# Altium schematic symbol library WR-TBL_Rising Cage Clamp.SchLib: 435 symbols (part 2 of 7)
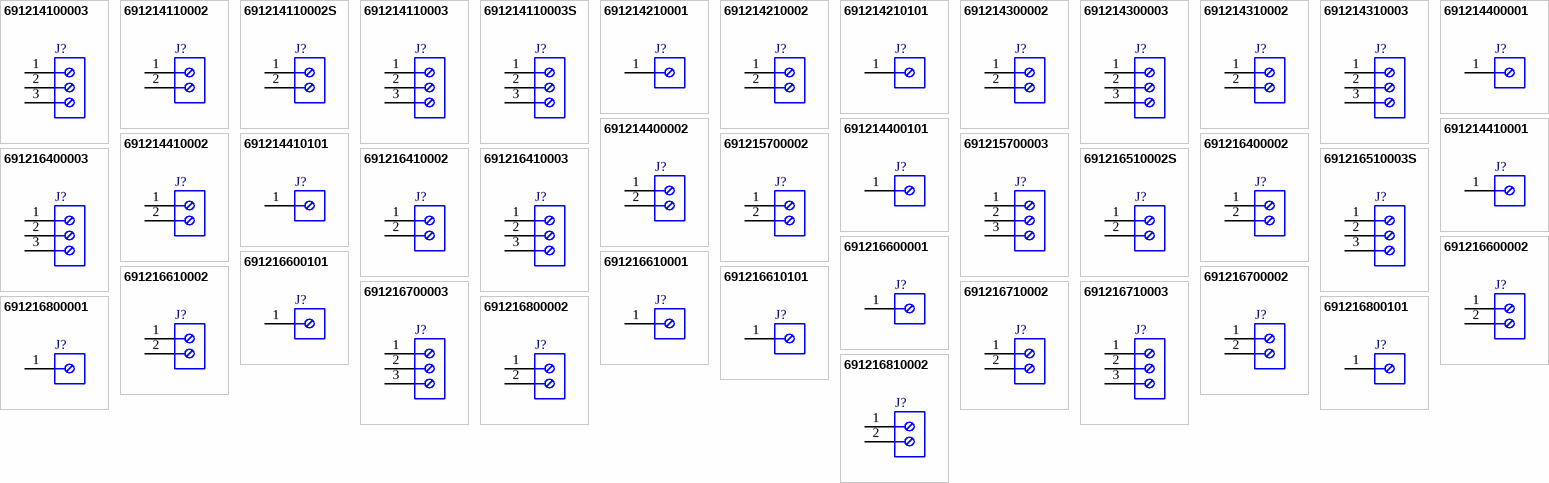
[diagram p11: symbols 691214100003 to 691216810002]

## 691216610002
designator J?
WR-TBL Serie 2166 Horizontal Entry, Rising Cage Clamp, pitch 10.16mm, 2p; Part Number: 691216610002; Compliance: Lead free / RoHS; Modularity: Yes; PCB/Cable/Panel: PCB; Pin Number: 2; Rated Current [UL]: 14A; Working Voltage [UL]: 300VAC; ComponentLink1Description: Manufacturer; ComponentLink1URL: http://www.we-online.de; ComponentLink2URL: https://katalog.we-online.de/em/datasheet/691216610002.pdf; ComponentLink2Description: Datasheet; Mounting Technology: THT; Packaging: Box; Operating Temperature: -30 to +120degC; Pitch: 10.16mm; Published Date: October 2019; Type: Horizontal; Publisher: Wurth Elektronik; Application: Rising Cage Clamp
footprint 691216610002
pins: 1, 2

## 691216610101
designator J?
WR-TBL Serie 2166 Horizontal Entry, Rising Cage Clamp, pitch 10.16mm, 1p; Part Number: 691216610101; Compliance: Lead free / RoHS; Modularity: Yes; PCB/Cable/Panel: PCB; Pin Number: 1; Rated Current [UL]: 14A; Working Voltage [UL]: 300VAC; ComponentLink1Description: Manufacturer; ComponentLink1URL: http://www.we-online.de; ComponentLink2URL: https://katalog.we-online.de/em/datasheet/691216610101.pdf; ComponentLink2Description: Datasheet; Mounting Technology: THT; Packaging: Box; Operating Temperature: -30 to +120degC; Pitch: 10.16mm; Published Date: October 2019; Type: Horizontal; Publisher: Wurth Elektronik; Application: Rising Cage Clamp
footprint 691216610101
pins: 1

## 691216700002
designator J?
WR-TBL Serie 2167 Vertical Entry Modular, Rising Cage Clamp, pitch 5mm, 2p; Part Number: 691216700002; Compliance: Lead free / RoHS; Modularity: Yes; PCB/Cable/Panel: PCB; Pin Number: 2; Rated Current [UL]: 14A; Working Voltage [UL]: 300VAC; ComponentLink1Description: Manufacturer; ComponentLink1URL: http://www.we-online.de; ComponentLink2URL: https://katalog.we-online.de/em/datasheet/691216700002.pdf; ComponentLink2Description: Datasheet; Mounting Technology: THT; Packaging: Box; Operating Temperature: -30 to +120degC; Pitch: 5mm; Published Date: October 2019; Type: Vertical; Publisher: Wurth Elektronik; Application: Rising Cage Clamp
footprint 691216700002
pins: 1, 2

## 691216700003
designator J?
WR-TBL Serie 2167 Vertical Entry Modular, Rising Cage Clamp, pitch 5mm, 3p; Part Number: 691216700003; Compliance: Lead free / RoHS; Modularity: Yes; PCB/Cable/Panel: PCB; Pin Number: 3; Rated Current [UL]: 14A; Working Voltage [UL]: 300VAC; ComponentLink1Description: Manufacturer; ComponentLink1URL: http://www.we-online.de; ComponentLink2URL: https://katalog.we-online.de/em/datasheet/691216700003.pdf; ComponentLink2Description: Datasheet; Mounting Technology: THT; Packaging: Box; Operating Temperature: -30 to +120degC; Pitch: 5mm; Published Date: October 2019; Type: Vertical; Publisher: Wurth Elektronik; Application: Rising Cage Clamp
footprint 691216700003
pins: 1, 2, 3

## 691216710002
designator J?
WR-TBL Serie 2167 Horizontal Entry Modular, Rising Cage Clamp, pitch 5mm, 2p; Part Number: 691216710002; Compliance: Lead free / RoHS;​ ROHS & Reach; Modularity: Yes; PCB/Cable/Panel: PCB; Pin Number: 2; Rated Current [UL]: 14A; Working Voltage [UL]: 300VAC; ComponentLink1Description: Manufacturer; ComponentLink1URL: http://www.we-online.de; ComponentLink2URL: https://katalog.we-online.de/em/datasheet/691216710002.pdf; ComponentLink2Description: Datasheet; Mounting Technology: THT; Packaging: Box; Operating Temperature: -30 to +120degC; Pitch: 5mm; Published Date: October 2019; Type: Horizontal; Publisher: Wurth Elektronik; Application: Rising Cage Clamp
footprint 691216710002
pins: 1, 2

## 691216710003
designator J?
WR-TBL Serie 2167 Horizontal Entry Modular, Rising Cage Clamp, pitch 5mm, 3p; Part Number: 691216710003; Compliance: Lead free / RoHS;​ ROHS & Reach; Modularity: Yes; PCB/Cable/Panel: PCB; Pin Number: 3; Rated Current [UL]: 14A; Working Voltage [UL]: 300VAC; ComponentLink1Description: Manufacturer; ComponentLink1URL: http://www.we-online.de; ComponentLink2URL: https://katalog.we-online.de/em/datasheet/691216710003.pdf; ComponentLink2Description: Datasheet; Mounting Technology: THT; Packaging: Box; Operating Temperature: -30 to +120degC; Pitch: 5mm; Published Date: October 2019; Type: Horizontal; Publisher: Wurth Elektronik; Application: Rising Cage Clamp
footprint 691216710003
pins: 1, 2, 3

## 691216800001
designator J?
WR-TBL Serie 2168 Vertical Entry, Rising Cage Clamp, pitch 10mm, 1p; Part Number: 691216800001; Compliance: Lead free / RoHS; Modularity: Yes; PCB/Cable/Panel: PCB; Pin Number: 1; Rated Current [UL]: 14A; Working Voltage [UL]: 300VAC; ComponentLink1Description: Manufacturer; ComponentLink1URL: http://www.we-online.de; ComponentLink2URL: https://katalog.we-online.de/em/datasheet/691216800001.pdf; ComponentLink2Description: Datasheet; Mounting Technology: THT; Packaging: Box; Operating Temperature: -30 to +120degC; Pitch: 10mm; Published Date: October 2019; Type: Vertical; Publisher: Wurth Elektronik; Application: Rising Cage Clamp
footprint 691216800001
pins: 1

## 691216800002
designator J?
WR-TBL Serie 2168 Vertical Entry, Rising Cage Clamp, pitch 10mm, 2p; Part Number: 691216800002; Compliance: Lead free / RoHS; Modularity: Yes; PCB/Cable/Panel: PCB; Pin Number: 2; Rated Current [UL]: 14A; Working Voltage [UL]: 300VAC; ComponentLink1Description: Manufacturer; ComponentLink1URL: http://www.we-online.de; ComponentLink2URL: https://katalog.we-online.de/em/datasheet/691216800002.pdf; ComponentLink2Description: Datasheet; Mounting Technology: THT; Packaging: Box; Operating Temperature: -30 to +120degC; Pitch: 10mm; Published Date: October 2019; Type: Vertical; Publisher: Wurth Elektronik; Application: Rising Cage Clamp
footprint 691216800002
pins: 1, 2

## 691216800101
designator J?
WR-TBL Serie 2168 Vertical Entry, Rising Cage Clamp, pitch 10mm, 1p; Part Number: 691216800101; Compliance: Lead free / RoHS; Modularity: Yes; PCB/Cable/Panel: PCB; Pin Number: 1; Rated Current [UL]: 14A; Working Voltage [UL]: 300VAC; ComponentLink1Description: Manufacturer; ComponentLink1URL: http://www.we-online.de; ComponentLink2URL: https://katalog.we-online.de/em/datasheet/691216800101.pdf; ComponentLink2Description: Datasheet; Mounting Technology: THT; Packaging: Box; Operating Temperature: -30 to +120degC; Pitch: 10mm; Published Date: October 2019; Type: Vertical; Publisher: Wurth Elektronik; Application: Rising Cage Clamp
footprint 691216800101
pins: 1

## 691216810002
designator J?
WR-TBL Serie 2168 Horizontal Entry Modular, Rising Cage Clamp, pitch 10mm, 2p; Part Number: 691216810002; Compliance: ROHS & Reach; Modularity: Yes; PCB/Cable/Panel: PCB; Pin Number: 2; Rated Current [UL]: 14A; Working Voltage [UL]: 300VAC; ComponentLink1Description: Manufacturer; ComponentLink1URL: http://www.we-online.de; ComponentLink2URL: https://katalog.we-online.de/em/datasheet/691216810002.pdf; ComponentLink2Description: Datasheet; Mounting Technology: THT; Packaging: Box; Operating Temperature: -30 to +120degC; Pitch: 10mm; Published Date: October 2019; Type: Horizontal; Publisher: Wurth Elektronik; Application: Rising Cage Clamp
footprint 691216810002
pins: 1, 2

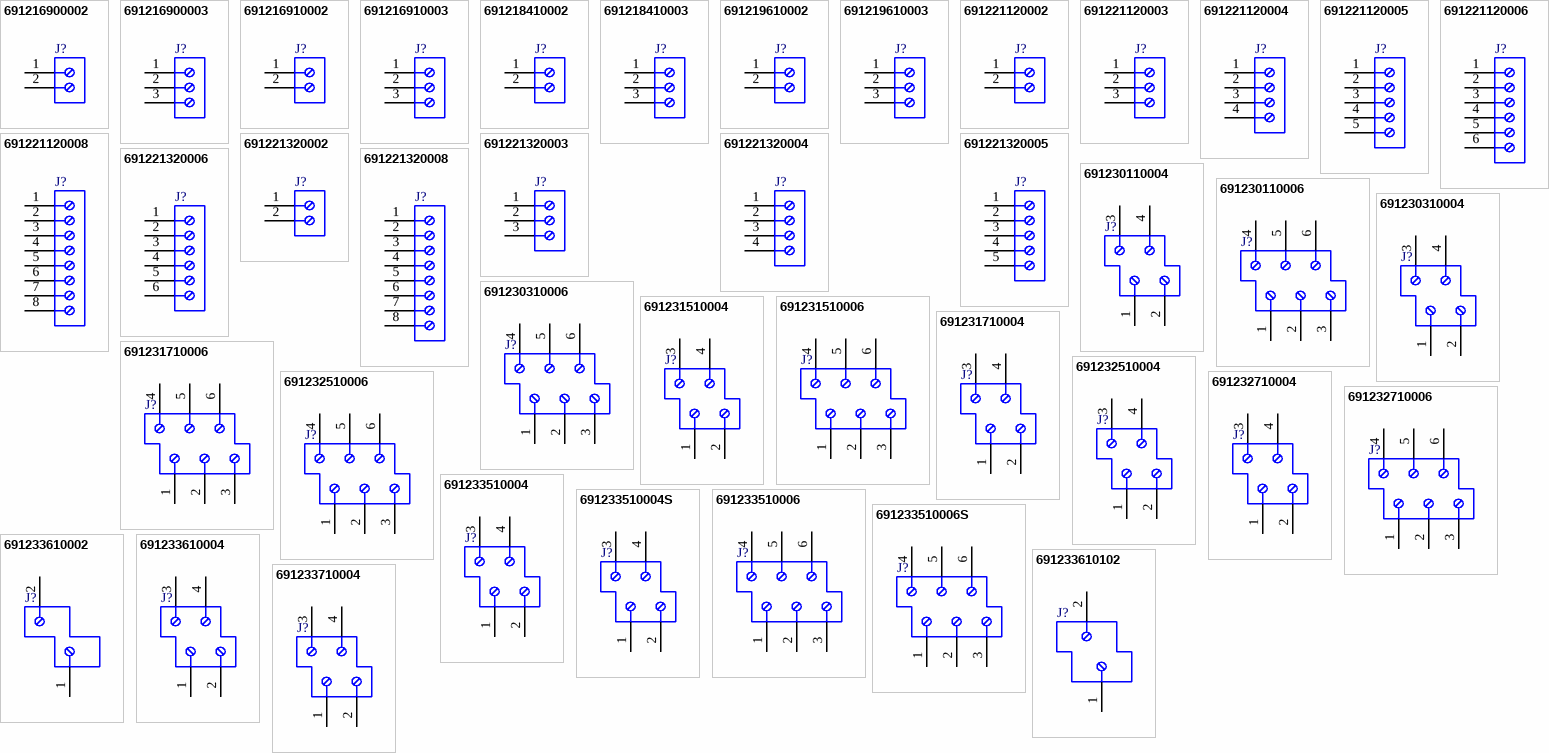
[diagram p2: symbols 691216900002 to 691233710004]

## 691216900002
designator J?
WR-TBL Serie 2169 Vertical Entry, Rising Cage Clamp, pitch 7.5mm, 2p; Part Number: 691216900002; Compliance: Lead free / RoHS; Modularity: Yes; PCB/Cable/Panel: PCB; Pin Number: 2; Rated Current [UL]: 14A; Working Voltage [UL]: 300VAC; ComponentLink1Description: Manufacturer; ComponentLink1URL: http://www.we-online.de; ComponentLink2URL: https://katalog.we-online.de/em/datasheet/691216900002.pdf; ComponentLink2Description: Datasheet; Mounting Technology: THT; Packaging: Box; Operating Temperature: -30 to +120degC; Pitch: 7.5mm; Published Date: October 2019; Type: Vertical; Publisher: Wurth Elektronik; Application: Rising Cage Clamp
footprint 691216900002
pins: 1, 2

## 691216900003
designator J?
WR-TBL Serie 2169 Vertical Entry, Rising Cage Clamp, pitch 7.5mm, 3p; Part Number: 691216900003; Compliance: Lead free / RoHS; Modularity: Yes; PCB/Cable/Panel: PCB; Pin Number: 3; Rated Current [UL]: 14A; Working Voltage [UL]: 300VAC; ComponentLink1Description: Manufacturer; ComponentLink1URL: http://www.we-online.de; ComponentLink2URL: https://katalog.we-online.de/em/datasheet/691216900003.pdf; ComponentLink2Description: Datasheet; Mounting Technology: THT; Packaging: Box; Operating Temperature: -30 to +120degC; Pitch: 7.5mm; Published Date: October 2019; Type: Vertical; Publisher: Wurth Elektronik; Application: Rising Cage Clamp
footprint 691216900003
pins: 1, 2, 3

## 691216910002
designator J?
WR-TBL Serie 2169 Horizontal Entry Modular, Rising Cage Clamp, pitch 7.5mm, 2p; Part Number: 691216910002; Compliance: ROHS & Reach; Modularity: Yes; PCB/Cable/Panel: PCB; Pin Number: 2; Rated Current [UL]: 14A; Working Voltage [UL]: 300VAC; ComponentLink1Description: Manufacturer; ComponentLink1URL: http://www.we-online.de; ComponentLink2URL: https://katalog.we-online.de/em/datasheet/691216910002.pdf; ComponentLink2Description: Datasheet; Mounting Technology: THT; Packaging: Box; Operating Temperature: -30 to +120degC; Pitch: 7.5mm; Published Date: October 2019; Type: Horizontal; Publisher: Wurth Elektronik; Application: Rising Cage Clamp
footprint 691216910002
pins: 1, 2

## 691216910003
designator J?
WR-TBL Serie 2169 Horizontal Entry Modular, Rising Cage Clamp, pitch 7.5mm, 3p; Part Number: 691216910003; Compliance: ROHS & Reach; Modularity: Yes; PCB/Cable/Panel: PCB; Pin Number: 3; Rated Current [UL]: 14A; Working Voltage [UL]: 300VAC; ComponentLink1Description: Manufacturer; ComponentLink1URL: http://www.we-online.de; ComponentLink2URL: https://katalog.we-online.de/em/datasheet/691216910003.pdf; ComponentLink2Description: Datasheet; Mounting Technology: THT; Packaging: Box; Operating Temperature: -30 to +120degC; Pitch: 7.5mm; Published Date: October 2019; Type: Horizontal; Publisher: Wurth Elektronik; Application: Rising Cage Clamp
footprint 691216910003
pins: 1, 2, 3

## 691218410002
designator J?
WR-TBL Serie 2184 Horizontal Entry Modular, Rising Cage Clamp, pitch 7.62mm, 2p; Part Number: 691218410002; Compliance: Lead free / RoHS; Modularity: Yes; PCB/Cable/Panel: PCB; Pin Number: 2; Rated Current [UL]: 30A; Working Voltage [UL]: 300VAC; ComponentLink1Description: Manufacturer; ComponentLink1URL: http://www.we-online.de; ComponentLink2URL: https://katalog.we-online.de/em/datasheet/691218410002.pdf; ComponentLink2Description: Datasheet; Mounting Technology: THT; Packaging: Box; Operating Temperature: -40 to +105degC; Pitch: 7.62mm; Published Date: October 2019; Type: Horizontal; Publisher: Wurth Elektronik; Application: Rising Cage Clamp
footprint 691218410002
pins: 1, 2

## 691218410003
designator J?
WR-TBL Serie 2184 Horizontal Entry Modular, Rising Cage Clamp, pitch 7.62mm, 3p; Part Number: 691218410003; Compliance: Lead free / RoHS; Modularity: Yes; PCB/Cable/Panel: PCB; Pin Number: 3; Rated Current [UL]: 30A; Working Voltage [UL]: 300VAC; ComponentLink1Description: Manufacturer; ComponentLink1URL: http://www.we-online.de; ComponentLink2URL: https://katalog.we-online.de/em/datasheet/691218410003.pdf; ComponentLink2Description: Datasheet; Mounting Technology: THT; Packaging: Box; Operating Temperature: -40 to +105degC; Pitch: 7.62mm; Published Date: October 2019; Type: Horizontal; Publisher: Wurth Elektronik; Application: Rising Cage Clamp
footprint 691218410003
pins: 1, 2, 3

## 691219610002
designator J?
WR-TBL Serie 2196 Horizontal Entry Modular, Rising Cage Clamp, pitch 10.16mm, 2p; Part Number: 691219610002; Compliance: Lead free / RoHS; Modularity: Yes; PCB/Cable/Panel: PCB; Pin Number: 2; Rated Current [UL]: 57A; Working Voltage [UL]: 300VAC; ComponentLink1Description: Manufacturer; ComponentLink1URL: http://www.we-online.de; ComponentLink2URL: https://katalog.we-online.de/em/datasheet/691219610002.pdf; ComponentLink2Description: Datasheet; Mounting Technology: THT; Packaging: Box; Operating Temperature: -40 to +105degC; Pitch: 10.16mm; Published Date: October 2019; Type: Horizontal; Publisher: Wurth Elektronik; Application: Rising Cage Clamp
footprint 691219610002
pins: 1, 2

## 691219610003
designator J?
WR-TBL Serie 2196 Horizontal Entry Modular, Rising Cage Clamp, pitch 10.16mm, 3p; Part Number: 691219610003; Compliance: Lead free / RoHS; Modularity: Yes; PCB/Cable/Panel: PCB; Pin Number: 3; Rated Current [UL]: 57A; Working Voltage [UL]: 300VAC; ComponentLink1Description: Manufacturer; ComponentLink1URL: http://www.we-online.de; ComponentLink2URL: https://katalog.we-online.de/em/datasheet/691219610003.pdf; ComponentLink2Description: Datasheet; Mounting Technology: THT; Packaging: Box; Operating Temperature: -40 to +105degC; Pitch: 10.16mm; Published Date: October 2019; Type: Horizontal; Publisher: Wurth Elektronik; Application: Rising Cage Clamp
footprint 691219610003
pins: 1, 2, 3

## 691221120002
designator J?
WR-TBL Serie 2211 55deg Entry Modular, Rising Cage Clamp, pitch 3.5mm, 2p; Part Number: 691221120002; Compliance: Lead free / RoHS; Modularity: Yes; PCB/Cable/Panel: PCB; Pin Number: 2; Rated Current [UL]: 10A; Working Voltage [UL]: 300VAC; ComponentLink1Description: Manufacturer; ComponentLink1URL: http://www.we-online.de; ComponentLink2URL: https://katalog.we-online.de/em/datasheet/691221120002.pdf; ComponentLink2Description: Datasheet; Mounting Technology: THT; Packaging: Box; Operating Temperature: -40 to +105degC; Pitch: 3.5mm; Published Date: October 2019; Type: 55deg; Publisher: Wurth Elektronik; Application: Rising Cage Clamp
footprint 691221120002
pins: 1, 2

## 691221120003
designator J?
WR-TBL Serie 2211 55deg Entry Modular, Rising Cage Clamp, pitch 3.5mm, 3p; Part Number: 691221120003; Compliance: Lead free / RoHS; Modularity: Yes; PCB/Cable/Panel: PCB; Pin Number: 3; Rated Current [UL]: 10A; Working Voltage [UL]: 300VAC; ComponentLink1Description: Manufacturer; ComponentLink1URL: http://www.we-online.de; ComponentLink2URL: https://katalog.we-online.de/em/datasheet/691221120003.pdf; ComponentLink2Description: Datasheet; Mounting Technology: THT; Packaging: Box; Operating Temperature: -40 to +105degC; Pitch: 3.5mm; Published Date: October 2019; Type: 55deg; Publisher: Wurth Elektronik; Application: Rising Cage Clamp
footprint 691221120003
pins: 1, 2, 3

## 691221120004
designator J?
WR-TBL Serie 2211 55deg Entry Modular, Rising Cage Clamp, pitch 3.5mm, 4p; Part Number: 691221120004; Compliance: Lead free / RoHS; Modularity: Yes; PCB/Cable/Panel: PCB; Pin Number: 4; Rated Current [UL]: 10A; Working Voltage [UL]: 300VAC; ComponentLink1Description: Manufacturer; ComponentLink1URL: http://www.we-online.de; ComponentLink2URL: https://katalog.we-online.de/em/datasheet/691221120004.pdf; ComponentLink2Description: Datasheet; Mounting Technology: THT; Packaging: Box; Operating Temperature: -40 to +105degC; Pitch: 3.5mm; Published Date: October 2019; Type: 55deg; Publisher: Wurth Elektronik; Application: Rising Cage Clamp
footprint 691221120004
pins: 1, 2, 3, 4

## 691221120005
designator J?
WR-TBL Serie 2211 55deg Entry Modular, Rising Cage Clamp, pitch 3.5mm, 5p; Part Number: 691221120005; Compliance: Lead free / RoHS; Modularity: Yes; PCB/Cable/Panel: PCB; Pin Number: 5; Rated Current [UL]: 10A; Working Voltage [UL]: 300VAC; ComponentLink1Description: Manufacturer; ComponentLink1URL: http://www.we-online.de; ComponentLink2URL: https://katalog.we-online.de/em/datasheet/691221120005.pdf; ComponentLink2Description: Datasheet; Mounting Technology: THT; Packaging: Box; Operating Temperature: -40 to +105degC; Pitch: 3.5mm; Published Date: October 2019; Type: 55deg; Publisher: Wurth Elektronik; Application: Rising Cage Clamp
footprint 691221120005
pins: 1, 2, 3, 4, 5

## 691221120006
designator J?
WR-TBL Serie 2211 55deg Entry Modular, Rising Cage Clamp, pitch 3.5mm, 6p; Part Number: 691221120006; Compliance: Lead free / RoHS; Modularity: Yes; PCB/Cable/Panel: PCB; Pin Number: 6; Rated Current [UL]: 10A; Working Voltage [UL]: 300VAC; ComponentLink1Description: Manufacturer; ComponentLink1URL: http://www.we-online.de; ComponentLink2URL: https://katalog.we-online.de/em/datasheet/691221120006.pdf; ComponentLink2Description: Datasheet; Mounting Technology: THT; Packaging: Box; Operating Temperature: -40 to +105degC; Pitch: 3.5mm; Published Date: October 2019; Type: 55deg; Publisher: Wurth Elektronik; Application: Rising Cage Clamp
footprint 691221120006
pins: 1, 2, 3, 4, 5, 6

## 691221120008
designator J?
WR-TBL Serie 2211 55deg Entry Modular, Rising Cage Clamp, pitch 3.5mm, 8p; Part Number: 691221120008; Compliance: Lead free / RoHS; Modularity: Yes; PCB/Cable/Panel: PCB; Pin Number: 8; Rated Current [UL]: 10A; Working Voltage [UL]: 300VAC; ComponentLink1Description: Manufacturer; ComponentLink1URL: http://www.we-online.de; ComponentLink2URL: https://katalog.we-online.de/em/datasheet/691221120008.pdf; ComponentLink2Description: Datasheet; Mounting Technology: THT; Packaging: Box; Operating Temperature: -40 to +105degC; Pitch: 3.5mm; Published Date: October 2019; Type: 55deg; Publisher: Wurth Elektronik; Application: Rising Cage Clamp
footprint 691221120008
pins: 1, 2, 3, 4, 5, 6, 7, 8

## 691221320002
designator J?
WR-TBL Serie 2213 55deg Entry Modular, Rising Cage Clamp, pitch 3.81mm, 2p; Part Number: 691221320002; Compliance: Lead free / RoHS; Modularity: Yes; PCB/Cable/Panel: PCB; Pin Number: 2; Rated Current [UL]: 10A; Working Voltage [UL]: 300VAC; ComponentLink1Description: Manufacturer; ComponentLink1URL: http://www.we-online.de; ComponentLink2URL: https://katalog.we-online.de/em/datasheet/691221320002.pdf; ComponentLink2Description: Datasheet; Mounting Technology: THT; Packaging: Box; Operating Temperature: -40 to +105degC; Pitch: 3.81mm; Published Date: October 2019; Type: 55deg; Publisher: Wurth Elektronik; Application: Rising Cage Clamp
footprint 691221320002
pins: 1, 2

## 691221320003
designator J?
WR-TBL Serie 2213 55deg Entry Modular, Rising Cage Clamp, pitch 3.81mm, 3p; Part Number: 691221320003; Compliance: Lead free / RoHS; Modularity: Yes; PCB/Cable/Panel: PCB; Pin Number: 3; Rated Current [UL]: 10A; Working Voltage [UL]: 300VAC; ComponentLink1Description: Manufacturer; ComponentLink1URL: http://www.we-online.de; ComponentLink2URL: https://katalog.we-online.de/em/datasheet/691221320003.pdf; ComponentLink2Description: Datasheet; Mounting Technology: THT; Packaging: Box; Operating Temperature: -40 to +105degC; Pitch: 3.81mm; Published Date: October 2019; Type: 55deg; Publisher: Wurth Elektronik; Application: Rising Cage Clamp
footprint 691221320003
pins: 1, 2, 3

## 691221320004
designator J?
WR-TBL Serie 2213 55deg Entry Modular, Rising Cage Clamp, pitch 3.81mm, 4p; Part Number: 691221320004; Compliance: Lead free / RoHS; Modularity: Yes; PCB/Cable/Panel: PCB; Pin Number: 4; Rated Current [UL]: 10A; Working Voltage [UL]: 300VAC; ComponentLink1Description: Manufacturer; ComponentLink1URL: http://www.we-online.de; ComponentLink2URL: https://katalog.we-online.de/em/datasheet/691221320004.pdf; ComponentLink2Description: Datasheet; Mounting Technology: THT; Packaging: Box; Operating Temperature: -40 to +105degC; Pitch: 3.81mm; Published Date: October 2019; Type: 55deg; Publisher: Wurth Elektronik; Application: Rising Cage Clamp
footprint 691221320004
pins: 1, 2, 3, 4

## 691221320005
designator J?
WR-TBL Serie 2213 55deg Entry Modular, Rising Cage Clamp, pitch 3.81mm, 5p; Part Number: 691221320005; Compliance: Lead free / RoHS; Modularity: Yes; PCB/Cable/Panel: PCB; Pin Number: 5; Rated Current [UL]: 10A; Working Voltage [UL]: 300VAC; ComponentLink1Description: Manufacturer; ComponentLink1URL: http://www.we-online.de; ComponentLink2URL: https://katalog.we-online.de/em/datasheet/691221320005.pdf; ComponentLink2Description: Datasheet; Mounting Technology: THT; Packaging: Box; Operating Temperature: -40 to +105degC; Pitch: 3.81mm; Published Date: October 2019; Type: 55deg; Publisher: Wurth Elektronik; Application: Rising Cage Clamp
footprint 691221320005
pins: 1, 2, 3, 4, 5

## 691221320006
designator J?
WR-TBL Serie 2213 55deg Entry Modular, Rising Cage Clamp, pitch 3.81mm, 6p; Part Number: 691221320006; Compliance: Lead free / RoHS; Modularity: Yes; PCB/Cable/Panel: PCB; Pin Number: 6; Rated Current [UL]: 10A; Working Voltage [UL]: 300VAC; ComponentLink1Description: Manufacturer; ComponentLink1URL: http://www.we-online.de; ComponentLink2URL: https://katalog.we-online.de/em/datasheet/691221320006.pdf; ComponentLink2Description: Datasheet; Mounting Technology: THT; Packaging: Box; Operating Temperature: -40 to +105degC; Pitch: 3.81mm; Published Date: October 2019; Type: 55deg; Publisher: Wurth Elektronik; Application: Rising Cage Clamp
footprint 691221320006
pins: 1, 2, 3, 4, 5, 6

## 691221320008
designator J?
WR-TBL Serie 2213 55deg Entry Modular, Rising Cage Clamp, pitch 3.81mm, 8p; Part Number: 691221320008; Compliance: Lead free / RoHS; Modularity: Yes; PCB/Cable/Panel: PCB; Pin Number: 8; Rated Current [UL]: 10A; Working Voltage [UL]: 300VAC; ComponentLink1Description: Manufacturer; ComponentLink1URL: http://www.we-online.de; ComponentLink2URL: https://katalog.we-online.de/em/datasheet/691221320008.pdf; ComponentLink2Description: Datasheet; Mounting Technology: THT; Packaging: Box; Operating Temperature: -40 to +105degC; Pitch: 3.81mm; Published Date: October 2019; Type: 55deg; Publisher: Wurth Elektronik; Application: Rising Cage Clamp
footprint 691221320008
pins: 1, 2, 3, 4, 5, 6, 7, 8

## 691230110004
designator J?
WR-TBL Serie 2301 Double Level Horizontal Entry Modular, Rising Cage Clamp, pitch 3.5mm, 4p; Part Number: 691230110004; Compliance: Lead free / RoHS; Modularity: Yes; PCB/Cable/Panel: PCB; Pin Number: 4; Rated Current [UL]: 10A; Working Voltage [UL]: 300VAC; ComponentLink1Description: Manufacturer; ComponentLink1URL: http://www.we-online.de; ComponentLink2URL: https://katalog.we-online.de/em/datasheet/691230110004.pdf; ComponentLink2Description: Datasheet; Mounting Technology: THT; Packaging: Box; Operating Temperature: -40 to +105degC; Pitch: 3.5mm; Published Date: October 2019; Type: Double Level Horizontal; Publisher: Wurth Elektronik; Application: Rising Cage Clamp
footprint 691230110004
pins: 1, 2, 3, 4

## 691230110006
designator J?
WR-TBL Serie 2301 Double Level Horizontal Entry Modular, Rising Cage Clamp, pitch 3.5mm, 6p; Part Number: 691230110006; Compliance: Lead free / RoHS; Modularity: Yes; PCB/Cable/Panel: PCB; Pin Number: 6; Rated Current [UL]: 10A; Working Voltage [UL]: 300VAC; ComponentLink1Description: Manufacturer; ComponentLink1URL: http://www.we-online.de; ComponentLink2URL: https://katalog.we-online.de/em/datasheet/691230110006.pdf; ComponentLink2Description: Datasheet; Mounting Technology: THT; Packaging: Box; Operating Temperature: -40 to +105degC; Pitch: 3.5mm; Published Date: October 2019; Type: Double Level Horizontal; Publisher: Wurth Elektronik; Application: Rising Cage Clamp
footprint 691230110006
pins: 1, 2, 3, 4, 5, 6

## 691230310004
designator J?
WR-TBL Serie 2303 Double Level Horizontal Entry Modular, Rising Cage Clamp, pitch 3.81mm, 4p; Part Number: 691230310004; Compliance: Lead free / RoHS; Modularity: Yes; PCB/Cable/Panel: PCB; Pin Number: 4; Rated Current [UL]: 10A; Working Voltage [UL]: 300VAC; ComponentLink1Description: Manufacturer; ComponentLink1URL: http://www.we-online.de; ComponentLink2URL: https://katalog.we-online.de/em/datasheet/691230310004.pdf; ComponentLink2Description: Datasheet; Mounting Technology: THT; Packaging: Box; Operating Temperature: -40 to +105degC; Pitch: 3.81mm; Published Date: October 2019; Type: Double Level Horizontal; Publisher: Wurth Elektronik; Application: Rising Cage Clamp
footprint 691230310004
pins: 1, 2, 3, 4

## 691230310006
designator J?
WR-TBL Serie 2303 Double Level Horizontal Entry Modular, Rising Cage Clamp, pitch 3.81mm, 6p; Part Number: 691230310006; Compliance: Lead free / RoHS; Modularity: Yes; PCB/Cable/Panel: PCB; Pin Number: 6; Rated Current [UL]: 10A; Working Voltage [UL]: 300VAC; ComponentLink1Description: Manufacturer; ComponentLink1URL: http://www.we-online.de; ComponentLink2URL: https://katalog.we-online.de/em/datasheet/691230310006.pdf; ComponentLink2Description: Datasheet; Mounting Technology: THT; Packaging: Box; Operating Temperature: -40 to +105degC; Pitch: 3.81mm; Published Date: October 2019; Type: Double Level Horizontal; Publisher: Wurth Elektronik; Application: Rising Cage Clamp
footprint 691230310006
pins: 1, 2, 3, 4, 5, 6

## 691231510004
designator J?
WR-TBL Serie 2315 Double Level Horizontal Entry Modular, Rising Cage Clamp, pitch 5.08mm, 4p; Part Number: 691231510004; Compliance: Lead free / RoHS; Modularity: Yes; PCB/Cable/Panel: PCB; Pin Number: 4; Rated Current [UL]: 10A; Working Voltage [UL]: 300VAC; ComponentLink1Description: Manufacturer; ComponentLink1URL: http://www.we-online.de; ComponentLink2URL: https://katalog.we-online.de/em/datasheet/691231510004.pdf; ComponentLink2Description: Datasheet; Mounting Technology: THT; Packaging: Box; Operating Temperature: -40 to +105degC; Pitch: 5.08mm; Published Date: October 2019; Type: Double Level Horizontal; Publisher: Wurth Elektronik; Application: Rising Cage Clamp
footprint 691231510004
pins: 1, 2, 3, 4

## 691231510006
designator J?
WR-TBL Serie 2315 Double Level Horizontal Entry Modular, Rising Cage Clamp, pitch 5.08mm, 6p; Part Number: 691231510006; Compliance: Lead free / RoHS; Modularity: Yes; PCB/Cable/Panel: PCB; Pin Number: 6; Rated Current [UL]: 10A; Working Voltage [UL]: 300VAC; ComponentLink1Description: Manufacturer; ComponentLink1URL: http://www.we-online.de; ComponentLink2URL: https://katalog.we-online.de/em/datasheet/691231510006.pdf; ComponentLink2Description: Datasheet; Mounting Technology: THT; Packaging: Box; Operating Temperature: -40 to +105degC; Pitch: 5.08mm; Published Date: October 2019; Type: Double Level Horizontal; Publisher: Wurth Elektronik; Application: Rising Cage Clamp
footprint 691231510006
pins: 1, 2, 3, 4, 5, 6

## 691231710004
designator J?
WR-TBL Serie 2317 Double Level Horizontal Entry Modular, Rising Cage Clamp, pitch 5mm, 4p; Part Number: 691231710004; Compliance: Lead free / RoHS; Modularity: Yes; PCB/Cable/Panel: PCB; Pin Number: 4; Rated Current [UL]: 10A; Working Voltage [UL]: 300VAC; ComponentLink1Description: Manufacturer; ComponentLink1URL: http://www.we-online.de; ComponentLink2URL: https://katalog.we-online.de/em/datasheet/691231710004.pdf; ComponentLink2Description: Datasheet; Mounting Technology: THT; Packaging: Box; Operating Temperature: -40 to +105degC; Pitch: 5mm; Published Date: October 2019; Type: Double Level Horizontal; Publisher: Wurth Elektronik; Application: Rising Cage Clamp
footprint 691231710004
pins: 1, 2, 3, 4

## 691231710006
designator J?
WR-TBL Serie 2317 Double Level Horizontal Entry Modular, Rising Cage Clamp, pitch 5mm, 6p; Part Number: 691231710006; Compliance: Lead free / RoHS; Modularity: Yes; PCB/Cable/Panel: PCB; Pin Number: 6; Rated Current [UL]: 10A; Working Voltage [UL]: 300VAC; ComponentLink1Description: Manufacturer; ComponentLink1URL: http://www.we-online.de; ComponentLink2URL: https://katalog.we-online.de/em/datasheet/691231710006.pdf; ComponentLink2Description: Datasheet; Mounting Technology: THT; Packaging: Box; Operating Temperature: -40 to +105degC; Pitch: 5mm; Published Date: October 2019; Type: Double Level Horizontal; Publisher: Wurth Elektronik; Application: Rising Cage Clamp
footprint 691231710006
pins: 1, 2, 3, 4, 5, 6

## 691232510004
designator J?
WR-TBL Serie 2325 Double Level Horizontal Entry Modular, Rising Cage Clamp, pitch 5.08mm, 4p; Part Number: 691232510004; Compliance: Lead free / RoHS; Modularity: Yes; PCB/Cable/Panel: PCB; Pin Number: 4; Rated Current [UL]: 20A; Working Voltage [UL]: 300VAC; ComponentLink1Description: Manufacturer; ComponentLink1URL: http://www.we-online.de; ComponentLink2URL: https://katalog.we-online.de/em/datasheet/691232510004.pdf; ComponentLink2Description: Datasheet; Mounting Technology: THT; Packaging: Box; Operating Temperature: -40 to +105degC; Pitch: 5.08mm; Published Date: October 2019; Type: Double Level Horizontal; Publisher: Wurth Elektronik; Application: Rising Cage Clamp
footprint 691232510004
pins: 1, 2, 3, 4

## 691232510006
designator J?
WR-TBL Serie 2325 Double Level Horizontal Entry Modular, Rising Cage Clamp, pitch 5.08mm, 6p; Part Number: 691232510006; Compliance: Lead free / RoHS; Modularity: Yes; PCB/Cable/Panel: PCB; Pin Number: 6; Rated Current [UL]: 20A; Working Voltage [UL]: 300VAC; ComponentLink1Description: Manufacturer; ComponentLink1URL: http://www.we-online.de; ComponentLink2URL: https://katalog.we-online.de/em/datasheet/691232510006.pdf; ComponentLink2Description: Datasheet; Mounting Technology: THT; Packaging: Box; Operating Temperature: -40 to +105degC; Pitch: 5.08mm; Published Date: October 2019; Type: Double Level Horizontal; Publisher: Wurth Elektronik; Application: Rising Cage Clamp
footprint 691232510006
pins: 1, 2, 3, 4, 5, 6

## 691232710004
designator J?
WR-TBL Serie 2327 Double Level Horizontal Entry Modular, Rising Cage Clamp, pitch 5mm, 4p; Part Number: 691232710004; Compliance: Lead free / RoHS; Modularity: Yes; PCB/Cable/Panel: PCB; Pin Number: 4; Rated Current [UL]: 20A; Working Voltage [UL]: 300VAC; ComponentLink1Description: Manufacturer; ComponentLink1URL: http://www.we-online.de; ComponentLink2URL: https://katalog.we-online.de/em/datasheet/691232710004.pdf; ComponentLink2Description: Datasheet; Mounting Technology: THT; Packaging: Box; Operating Temperature: -40 to +105degC; Pitch: 5mm; Published Date: October 2019; Type: Double Level Horizontal; Publisher: Wurth Elektronik; Application: Rising Cage Clamp
footprint 691232710004
pins: 1, 2, 3, 4

## 691232710006
designator J?
WR-TBL Serie 2327 Double Level Horizontal Entry Modular, Rising Cage Clamp, pitch 5mm, 6p; Part Number: 691232710006; Compliance: Lead free / RoHS; Modularity: Yes; PCB/Cable/Panel: PCB; Pin Number: 6; Rated Current [UL]: 20A; Working Voltage [UL]: 300VAC; ComponentLink1Description: Manufacturer; ComponentLink1URL: http://www.we-online.de; ComponentLink2URL: https://katalog.we-online.de/em/datasheet/691232710006.pdf; ComponentLink2Description: Datasheet; Mounting Technology: THT; Packaging: Box; Operating Temperature: -40 to +105degC; Pitch: 5mm; Published Date: October 2019; Type: Double Level Horizontal; Publisher: Wurth Elektronik; Application: Rising Cage Clamp
footprint 691232710006
pins: 1, 2, 3, 4, 5, 6

## 691233510004
designator J?
WR-TBL Serie 2335 Double Level Horizontal Entry Modular, Rising Cage Clamp, pitch 5.08mm, 4p; Part Number: 691233510004; Compliance: Lead free / RoHS; Modularity: Yes; PCB/Cable/Panel: PCB; Pin Number: 4; Rated Current [UL]: 20A; Working Voltage [UL]: 300VAC; ComponentLink1Description: Manufacturer; ComponentLink1URL: http://www.we-online.de; ComponentLink2URL: https://katalog.we-online.de/em/datasheet/691233510004.pdf; ComponentLink2Description: Datasheet; Mounting Technology: THT; Packaging: Box; Operating Temperature: -40 to +105degC; Pitch: 5.08mm; Published Date: October 2019; Type: Double Level Horizontal; Publisher: Wurth Elektronik; Application: Rising Cage Clamp
footprint 691233510004
pins: 1, 2, 3, 4

## 691233510004S
designator J?
WR-TBL Serie 2335S Double Level Horizontal Entry Modular, Rising Cage Clamp, pitch 5.08mm, 4p; Part Number: 691233510004S; Compliance: Lead free / RoHS; Modularity: Yes; PCB/Cable/Panel: PCB; Pin Number: 4; Rated Current [UL]: 20A; Working Voltage [UL]: 300VAC; ComponentLink1Description: Manufacturer; ComponentLink1URL: http://www.we-online.de; ComponentLink2URL: https://katalog.we-online.de/em/datasheet/691233510004S.pdf; ComponentLink2Description: Datasheet; Mounting Technology: THT; Packaging: Box; Operating Temperature: -30 to +120degC; Pitch: 5.08mm; Published Date: October 2019; Type: Double Level Horizontal; Publisher: Wurth Elektronik; Application: Rising Cage Clamp
footprint 691233510004S
pins: 1, 2, 3, 4

## 691233510006
designator J?
WR-TBL Serie 2335 Double Level Horizontal Entry Modular, Rising Cage Clamp, pitch 5.08mm, 6p; Part Number: 691233510006; Compliance: Lead free / RoHS; Modularity: Yes; PCB/Cable/Panel: PCB; Pin Number: 6; Rated Current [UL]: 20A; Working Voltage [UL]: 300VAC; ComponentLink1Description: Manufacturer; ComponentLink1URL: http://www.we-online.de; ComponentLink2URL: https://katalog.we-online.de/em/datasheet/691233510006.pdf; ComponentLink2Description: Datasheet; Mounting Technology: THT; Packaging: Box; Operating Temperature: -40 to +105degC; Pitch: 5.08mm; Published Date: October 2019; Type: Double Level Horizontal; Publisher: Wurth Elektronik; Application: Rising Cage Clamp
footprint 691233510006
pins: 1, 2, 3, 4, 5, 6

## 691233510006S
designator J?
WR-TBL Serie 2335S Double Level Horizontal Entry Modular, Rising Cage Clamp, pitch 5.08mm, 6p; Part Number: 691233510006S; Compliance: Lead free / RoHS; Modularity: Yes; PCB/Cable/Panel: PCB; Pin Number: 6; Rated Current [UL]: 20A; Working Voltage [UL]: 300VAC; ComponentLink1Description: Manufacturer; ComponentLink1URL: http://www.we-online.de; ComponentLink2URL: https://katalog.we-online.de/em/datasheet/691233510006S.pdf; ComponentLink2Description: Datasheet; Mounting Technology: THT; Packaging: Box; Operating Temperature: -30 to +120degC; Pitch: 5.08mm; Published Date: October 2019; Type: Double Level Horizontal; Publisher: Wurth Elektronik; Application: Rising Cage Clamp
footprint 691233510006S
pins: 1, 2, 3, 4, 5, 6

## 691233610002
designator J?
WR-TBL Serie 2336 Double Level Horizontal Entry, Rising Cage Clamp, pitch 10.16mm, 2p; Part Number: 691233610002; Compliance: Lead free / RoHS; Modularity: Yes; PCB/Cable/Panel: PCB; Pin Number: 2; Rated Current [UL]: 20A; Working Voltage [UL]: 300VAC; ComponentLink1Description: Manufacturer; ComponentLink1URL: http://www.we-online.de; ComponentLink2URL: https://katalog.we-online.de/em/datasheet/691233610002.pdf; ComponentLink2Description: Datasheet; Mounting Technology: THT; Packaging: Box; Operating Temperature: -30 to +120degC; Pitch: 10.16mm; Published Date: October 2019; Type: Double Level Horizontal; Publisher: Wurth Elektronik; Application: Rising Cage Clamp
footprint 691233610002
pins: 1, 2

## 691233610004
designator J?
WR-TBL Serie 2336 Double Level Horizontal Entry, Rising Cage Clamp, pitch 10.16mm, 4p; Part Number: 691233610004; Compliance: Lead free / RoHS; Modularity: Yes; PCB/Cable/Panel: PCB; Pin Number: 4; Rated Current [UL]: 20A; Working Voltage [UL]: 300VAC; ComponentLink1Description: Manufacturer; ComponentLink1URL: http://www.we-online.de; ComponentLink2URL: https://katalog.we-online.de/em/datasheet/691233610004.pdf; ComponentLink2Description: Datasheet; Mounting Technology: THT; Packaging: Box; Operating Temperature: -30 to +120degC; Pitch: 10.16mm; Published Date: October 2019; Type: Double Level Horizontal; Publisher: Wurth Elektronik; Application: Rising Cage Clamp
footprint 691233610004
pins: 1, 2, 3, 4

## 691233610102
designator J?
WR-TBL Serie 2336 Double Level Horizontal Entry, Rising Cage Clamp, pitch 10.16mm, 2p; Part Number: 691233610102; Compliance: Lead free / RoHS; Modularity: Yes; PCB/Cable/Panel: PCB; Pin Number: 2; Rated Current [UL]: 20A; Working Voltage [UL]: 300VAC; ComponentLink1Description: Manufacturer; ComponentLink1URL: http://www.we-online.de; ComponentLink2URL: https://katalog.we-online.de/em/datasheet/691233610102.pdf; ComponentLink2Description: Datasheet; Mounting Technology: THT; Packaging: Box; Operating Temperature: -30 to +120degC; Pitch: 10.16mm; Published Date: October 2019; Type: Double Level Horizontal; Publisher: Wurth Elektronik; Application: Rising Cage Clamp
footprint 691233610102
pins: 1, 2

## 691233710004
designator J?
WR-TBL Serie 2337 Double Level Horizontal Entry Modular, Rising Cage Clamp, pitch 5mm, 4p; Part Number: 691233710004; Compliance: Lead free / RoHS; Modularity: Yes; PCB/Cable/Panel: PCB; Pin Number: 4; Rated Current [UL]: 20A; Working Voltage [UL]: 300VAC; ComponentLink1Description: Manufacturer; ComponentLink1URL: http://www.we-online.de; ComponentLink2URL: https://katalog.we-online.de/em/datasheet/691233710004.pdf; ComponentLink2Description: Datasheet; Mounting Technology: THT; Packaging: Box; Operating Temperature: -40 to +105degC; Pitch: 5mm; Published Date: October 2019; Type: Double Level Horizontal; Publisher: Wurth Elektronik; Application: Rising Cage Clamp
footprint 691233710004
pins: 1, 2, 3, 4

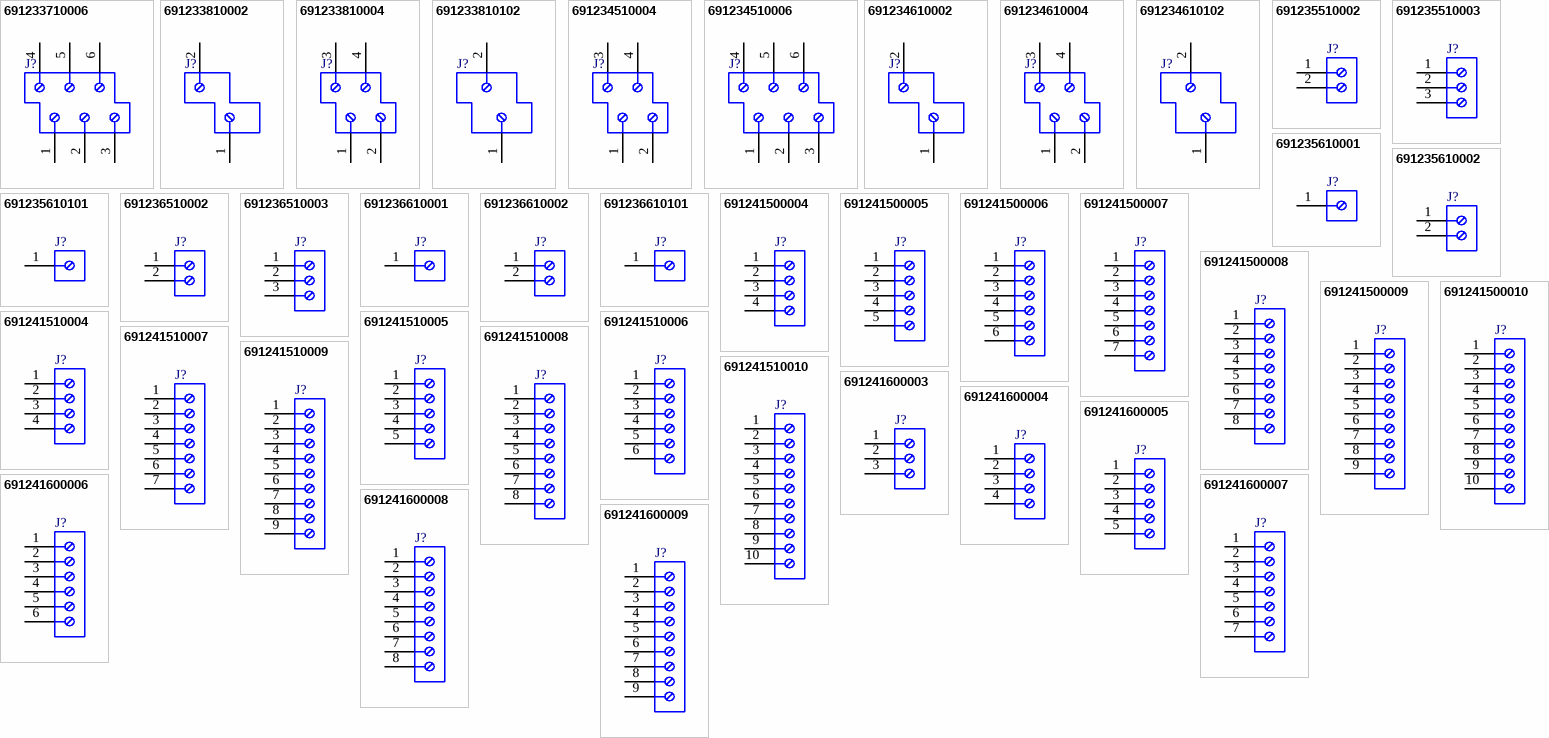
[diagram p3: symbols 691233710006 to 691241600009]

## 691233710006
designator J?
WR-TBL Serie 2337 Double Level Horizontal Entry Modular, Rising Cage Clamp, pitch 5mm, 6p; Part Number: 691233710006; Compliance: Lead free / RoHS; Modularity: Yes; PCB/Cable/Panel: PCB; Pin Number: 6; Rated Current [UL]: 20A; Working Voltage [UL]: 300VAC; ComponentLink1Description: Manufacturer; ComponentLink1URL: http://www.we-online.de; ComponentLink2URL: https://katalog.we-online.de/em/datasheet/691233710006.pdf; ComponentLink2Description: Datasheet; Mounting Technology: THT; Packaging: Box; Operating Temperature: -40 to +105degC; Pitch: 5mm; Published Date: October 2019; Type: Double Level Horizontal; Publisher: Wurth Elektronik; Application: Rising Cage Clamp
footprint 691233710006
pins: 1, 2, 3, 4, 5, 6

## 691233810002
designator J?
WR-TBL Serie 2338 Double Level Horizontal Cable Entry, Rising Cage Clamp, pitch 10mm, 2p; Part Number: 691233810002; Compliance: Lead free / RoHS; Modularity: Yes; PCB/Cable/Panel: PCB; Pin Number: 2; Rated Current [UL]: 16A; Working Voltage [UL]: 300VAC; ComponentLink1Description: Manufacturer; ComponentLink1URL: http://www.we-online.de; ComponentLink2URL: https://katalog.we-online.de/em/datasheet/691233810002.pdf; ComponentLink2Description: Datasheet; Mounting Technology: THT; Packaging: Box; Operating Temperature: -30 to +120degC; Pitch: 10mm; Published Date: October 2019; Type: Double Level Horizontal; Publisher: Wurth Elektronik; Application: Rising Cage Clamp
footprint 691233810002
pins: 1, 2

## 691233810004
designator J?
WR-TBL Serie 2338 Double Level Horizontal Cable Entry, Rising Cage Clamp, pitch 10mm, 4p; Part Number: 691233810004; Compliance: Lead free / RoHS; Modularity: Yes; PCB/Cable/Panel: PCB; Pin Number: 4; Rated Current [UL]: 16A; Working Voltage [UL]: 300VAC; ComponentLink1Description: Manufacturer; ComponentLink1URL: http://www.we-online.de; ComponentLink2URL: https://katalog.we-online.de/em/datasheet/691233810004.pdf; ComponentLink2Description: Datasheet; Mounting Technology: THT; Packaging: Box; Operating Temperature: -30 to +120degC; Pitch: 10mm; Published Date: October 2019; Type: Double Level Horizontal; Publisher: Wurth Elektronik; Application: Rising Cage Clamp
footprint 691233810004
pins: 1, 2, 3, 4

## 691233810102
designator J?
WR-TBL Serie 2338 Double Level Horizontal Cable Entry, Rising Cage Clamp, pitch 10mm, 2p; Part Number: 691233810102; Compliance: Lead free / RoHS; Modularity: Yes; PCB/Cable/Panel: PCB; Pin Number: 2; Rated Current [UL]: 16A; Working Voltage [UL]: 300VAC; ComponentLink1Description: Manufacturer; ComponentLink1URL: http://www.we-online.de; ComponentLink2URL: https://katalog.we-online.de/em/datasheet/691233810102.pdf; ComponentLink2Description: Datasheet; Mounting Technology: THT; Packaging: Box; Operating Temperature: -30 to +120degC; Pitch: 10mm; Published Date: October 2019; Type: Double Level Horizontal; Publisher: Wurth Elektronik; Application: Rising Cage Clamp
footprint 691233810102
pins: 1, 2

## 691234510004
designator J?
WR-TBL Series 2345 Double Level Horizontal Entry, Rising Cage Clamp, pitch 5.08mm, 4p; Part Number: 691234510004; Compliance: Lead free / RoHS; Modularity: Yes; PCB/Cable/Panel: PCB; Pin Number: 4; Rated Current [UL]: 20A; Working Voltage [UL]: 300VAC; ComponentLink1Description: Manufacturer; ComponentLink1URL: http://www.we-online.de; ComponentLink2URL: https://katalog.we-online.de/em/datasheet/691234510004.pdf; ComponentLink2Description: Datasheet; Mounting Technology: THT; Packaging: Box; Operating Temperature: -30 to +120degC; Pitch: 5.08mm; Published Date: October 2019; Type: Double Level Horizontal; Publisher: Wurth Elektronik; Application: Rising Cage Clamp
footprint 691234510004
pins: 1, 2, 3, 4

## 691234510006
designator J?
WR-TBL Series 2345 Double Level Horizontal Entry, Rising Cage Clamp, pitch 5.08mm, 6p; Part Number: 691234510006; Compliance: Lead free / RoHS; Modularity: Yes; PCB/Cable/Panel: PCB; Pin Number: 6; Rated Current [UL]: 20A; Working Voltage [UL]: 300VAC; ComponentLink1Description: Manufacturer; ComponentLink1URL: http://www.we-online.de; ComponentLink2URL: https://katalog.we-online.de/em/datasheet/691234510006.pdf; ComponentLink2Description: Datasheet; Mounting Technology: THT; Packaging: Box; Operating Temperature: -30 to +120degC; Pitch: 5.08mm; Published Date: October 2019; Type: Double Level Horizontal; Publisher: Wurth Elektronik; Application: Rising Cage Clamp
footprint 691234510006
pins: 1, 2, 3, 4, 5, 6

## 691234610002
designator J?
WR-TBL Serie 2346 Double Level Horizontal Entry, Rising Cage Clamp, pitch 10.16mm, 2p; Part Number: 691234610002; Compliance: Lead free / RoHS; Modularity: Yes; PCB/Cable/Panel: PCB; Pin Number: 2; Rated Current [UL]: 20A; Working Voltage [UL]: 300VAC; ComponentLink1Description: Manufacturer; ComponentLink1URL: http://www.we-online.de; ComponentLink2URL: https://katalog.we-online.de/em/datasheet/691234610002.pdf; ComponentLink2Description: Datasheet; Mounting Technology: THT; Packaging: Box; Operating Temperature: -30 to +120degC; Pitch: 10.16mm; Published Date: October 2019; Type: Double Level Horizontal; Publisher: Wurth Elektronik; Application: Rising Cage Clamp
footprint 691234610002
pins: 1, 2

## 691234610004
designator J?
WR-TBL Serie 2346 Double Level Horizontal Entry, Rising Cage Clamp, pitch 10.16mm, 4p; Part Number: 691234610004; Compliance: Lead free / RoHS; Modularity: Yes; PCB/Cable/Panel: PCB; Pin Number: 4; Rated Current [UL]: 20A; Working Voltage [UL]: 300VAC; ComponentLink1Description: Manufacturer; ComponentLink1URL: http://www.we-online.de; ComponentLink2URL: https://katalog.we-online.de/em/datasheet/691234610004.pdf; ComponentLink2Description: Datasheet; Mounting Technology: THT; Packaging: Box; Operating Temperature: -30 to +120degC; Pitch: 10.16mm; Published Date: October 2019; Type: Double Level Horizontal; Publisher: Wurth Elektronik; Application: Rising Cage Clamp
footprint 691234610004
pins: 1, 2, 3, 4

## 691234610102
designator J?
WR-TBL Serie 2346 Double Level Horizontal Entry, Rising Cage Clamp, pitch 10.16mm, 2p; Part Number: 691234610102; Compliance: Lead free / RoHS; Modularity: Yes; PCB/Cable/Panel: PCB; Pin Number: 2; Rated Current [UL]: 20A; Working Voltage [UL]: 300VAC; ComponentLink1Description: Manufacturer; ComponentLink1URL: http://www.we-online.de; ComponentLink2URL: https://katalog.we-online.de/em/datasheet/691234610102.pdf; ComponentLink2Description: Datasheet; Mounting Technology: THT; Packaging: Box; Operating Temperature: -30 to +120degC; Pitch: 10.16mm; Published Date: October 2019; Type: Double Level Horizontal; Publisher: Wurth Elektronik; Application: Rising Cage Clamp
footprint 691234610102
pins: 1, 2

## 691235510002
designator J?
WR-TBL Serie 2355 Horizontal Entry, Rising Cage Clamp, pitch 5.08mm, 2p; Part Number: 691235510002; Compliance: Lead free / RoHS; Modularity: Yes; PCB/Cable/Panel: PCB; Pin Number: 2; Rated Current [UL]: 20A; Working Voltage [UL]: 300VAC; ComponentLink1Description: Manufacturer; ComponentLink1URL: http://www.we-online.de; ComponentLink2URL: https://katalog.we-online.de/em/datasheet/691235510002.pdf; ComponentLink2Description: Datasheet; Mounting Technology: THT; Packaging: Box; Operating Temperature: -30 to +120degC; Pitch: 5.08mm; Published Date: October 2019; Type: Horizontal; Publisher: Wurth Elektronik; Application: Rising Cage Clamp
footprint 691235510002
pins: 1, 2

## 691235510003
designator J?
WR-TBL Serie 2355 Horizontal Entry, Rising Cage Clamp, pitch 5.08mm, 3p; Part Number: 691235510003; Compliance: Lead free / RoHS; Modularity: Yes; PCB/Cable/Panel: PCB; Pin Number: 3; Rated Current [UL]: 20A; Working Voltage [UL]: 300VAC; ComponentLink1Description: Manufacturer; ComponentLink1URL: http://www.we-online.de; ComponentLink2URL: https://katalog.we-online.de/em/datasheet/691235510003.pdf; ComponentLink2Description: Datasheet; Mounting Technology: THT; Packaging: Box; Operating Temperature: -30 to +120degC; Pitch: 5.08mm; Published Date: October 2019; Type: Horizontal; Publisher: Wurth Elektronik; Application: Rising Cage Clamp
footprint 691235510003
pins: 1, 2, 3

## 691235610001
designator J?
WR-TBL Serie 2356 Horizontal Entry, Rising Cage Clamp, pitch 10.16mm, 1p; Part Number: 691235610001; Compliance: Lead free / RoHS; Modularity: Yes; PCB/Cable/Panel: PCB; Pin Number: 1; Rated Current [UL]: 20A; Working Voltage [UL]: 300VAC; ComponentLink1Description: Manufacturer; ComponentLink1URL: http://www.we-online.de; ComponentLink2URL: https://katalog.we-online.de/em/datasheet/691235610001.pdf; ComponentLink2Description: Datasheet; Mounting Technology: THT; Packaging: Box; Operating Temperature: -30 to +120degC; Pitch: 10.16mm; Published Date: October 2019; Type: Horizontal; Publisher: Wurth Elektronik; Application: Rising Cage Clamp
footprint 691235610001
pins: 1

## 691235610002
designator J?
WR-TBL Serie 2356 Horizontal Entry, Rising Cage Clamp, pitch 10.16mm, 2p; Part Number: 691235610002; Compliance: Lead free / RoHS; Modularity: Yes; PCB/Cable/Panel: PCB; Pin Number: 2; Rated Current [UL]: 20A; Working Voltage [UL]: 300VAC; ComponentLink1Description: Manufacturer; ComponentLink1URL: http://www.we-online.de; ComponentLink2URL: https://katalog.we-online.de/em/datasheet/691235610002.pdf; ComponentLink2Description: Datasheet; Mounting Technology: THT; Packaging: Box; Operating Temperature: -30 to +120degC; Pitch: 10.16mm; Published Date: October 2019; Type: Horizontal; Publisher: Wurth Elektronik; Application: Rising Cage Clamp
footprint 691235610002
pins: 1, 2

## 691235610101
designator J?
WR-TBL Serie 2356 Horizontal Entry, Rising Cage Clamp, pitch 10.16mm, 1p; Part Number: 691235610101; Compliance: Lead free / RoHS; Modularity: Yes; PCB/Cable/Panel: PCB; Pin Number: 1; Rated Current [UL]: 20A; Working Voltage [UL]: 300VAC; ComponentLink1Description: Manufacturer; ComponentLink1URL: http://www.we-online.de; ComponentLink2URL: https://katalog.we-online.de/em/datasheet/691235610101.pdf; ComponentLink2Description: Datasheet; Mounting Technology: THT; Packaging: Box; Operating Temperature: -30 to +120degC; Pitch: 10.16mm; Published Date: October 2019; Type: Horizontal; Publisher: Wurth Elektronik; Application: Rising Cage Clamp
footprint 691235610101
pins: 1

## 691236510002
designator J?
WR-TBL Serie 2365 Horizontal Entry, Rising Cage Clamp, pitch 5.08mm, 2p; Part Number: 691236510002; Compliance: Lead free / RoHS; Modularity: Yes; PCB/Cable/Panel: PCB; Pin Number: 2; Rated Current [UL]: 20A; Working Voltage [UL]: 300VAC; ComponentLink1Description: Manufacturer; ComponentLink1URL: http://www.we-online.de; ComponentLink2URL: https://katalog.we-online.de/em/datasheet/691236510002.pdf; ComponentLink2Description: Datasheet; Mounting Technology: THT; Packaging: Box; Operating Temperature: -30 to +120degC; Pitch: 5.08mm; Published Date: October 2019; Type: Horizontal; Publisher: Wurth Elektronik; Application: Rising Cage Clamp
footprint 691236510002
pins: 1, 2

## 691236510003
designator J?
WR-TBL Serie 2365 Horizontal Entry, Rising Cage Clamp, pitch 5.08mm, 3p; Part Number: 691236510003; Compliance: Lead free / RoHS; Modularity: Yes; PCB/Cable/Panel: PCB; Pin Number: 3; Rated Current [UL]: 20A; Working Voltage [UL]: 300VAC; ComponentLink1Description: Manufacturer; ComponentLink1URL: http://www.we-online.de; ComponentLink2URL: https://katalog.we-online.de/em/datasheet/691236510003.pdf; ComponentLink2Description: Datasheet; Mounting Technology: THT; Packaging: Box; Operating Temperature: -30 to +120degC; Pitch: 5.08mm; Published Date: October 2019; Type: Horizontal; Publisher: Wurth Elektronik; Application: Rising Cage Clamp
footprint 691236510003
pins: 1, 2, 3

## 691236610001
designator J?
WR-TBL Serie 2366 Horizontal Entry, Rising Cage Clamp, pitch 10.16mm, 1p; Part Number: 691236610001; Compliance: Lead free / RoHS; Modularity: Yes; PCB/Cable/Panel: PCB; Pin Number: 1; Rated Current [UL]: 20A; Working Voltage [UL]: 300VAC; ComponentLink1Description: Manufacturer; ComponentLink1URL: http://www.we-online.de; ComponentLink2URL: https://katalog.we-online.de/em/datasheet/691236610001.pdf; ComponentLink2Description: Datasheet; Mounting Technology: THT; Packaging: Box; Operating Temperature: -30 to +120degC; Pitch: 10.16mm; Published Date: October 2019; Type: Horizontal; Publisher: Wurth Elektronik; Application: Rising Cage Clamp
footprint 691236610001
pins: 1

## 691236610002
designator J?
WR-TBL Serie 2366 Horizontal Entry, Rising Cage Clamp, pitch 10.16mm, 2p; Part Number: 691236610002; Compliance: Lead free / RoHS; Modularity: Yes; PCB/Cable/Panel: PCB; Pin Number: 2; Rated Current [UL]: 20A; Working Voltage [UL]: 300VAC; ComponentLink1Description: Manufacturer; ComponentLink1URL: http://www.we-online.de; ComponentLink2URL: https://katalog.we-online.de/em/datasheet/691236610002.pdf; ComponentLink2Description: Datasheet; Mounting Technology: THT; Packaging: Box; Operating Temperature: -30 to +120degC; Pitch: 10.16mm; Published Date: October 2019; Type: Horizontal; Publisher: Wurth Elektronik; Application: Rising Cage Clamp
footprint 691236610002
pins: 1, 2